# Altium schematic symbol library ModuHub_Library_SCH.SchLib: 19 symbols
Pins are listed as number, name and electrical type; pins without a type are passive.

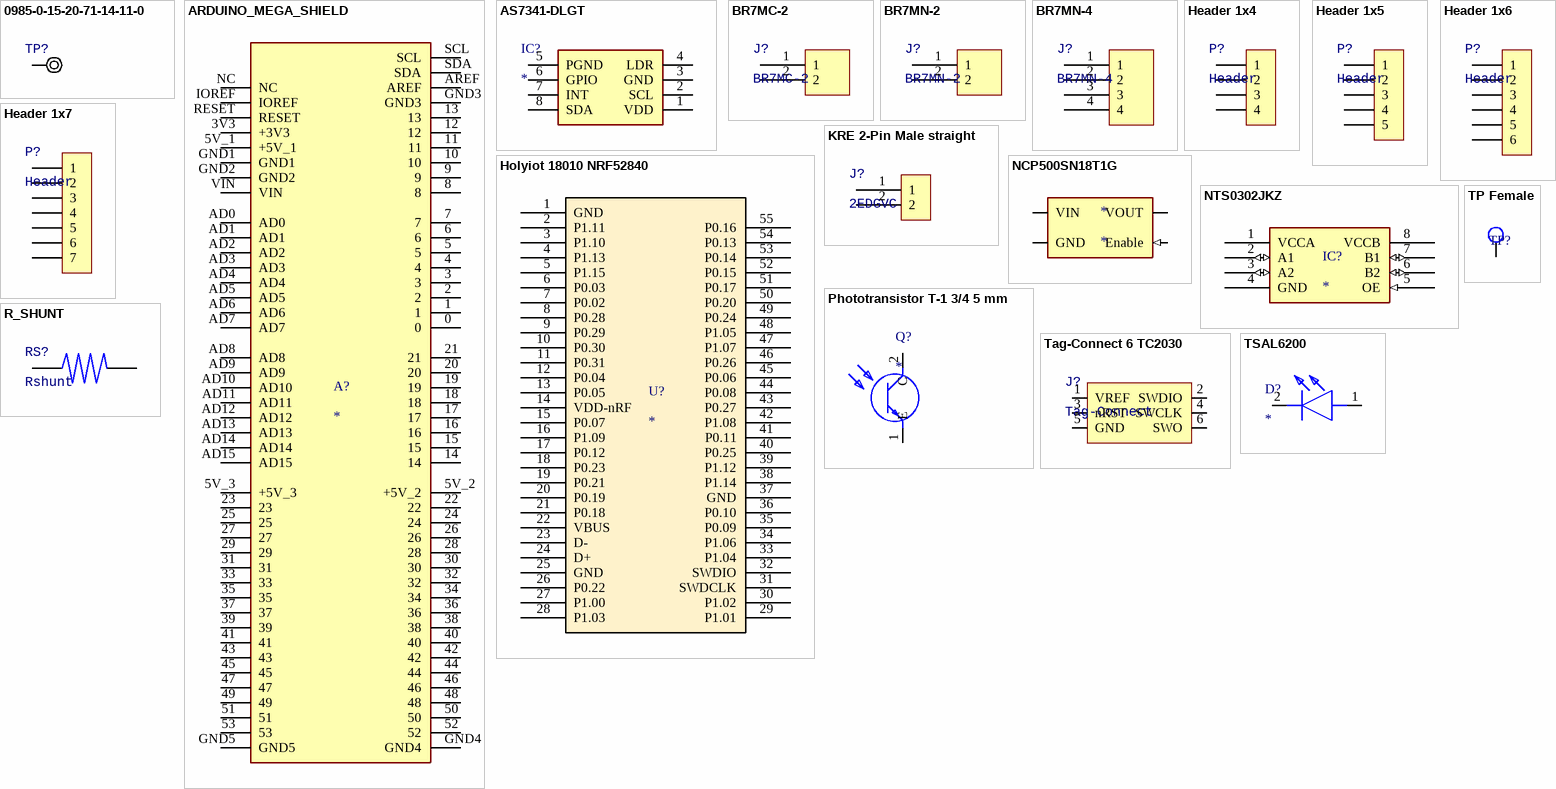
[diagram p0: symbols 0985-0-15-20-71-14-11-0 to TSAL6200]

## 0985-0-15-20-71-14-11-0
designator TP?  (value not drawn)
Pogo Pin; Manufacturer Part Number: 0985-0-15-20-71-14-11-0; MPN: 0985-0-15-20-71-14-11-0
footprint 0985-0-15-20-71-14-11-0 (Pogo Pin)
pins: 1

## ARDUINO_MEGA_SHIELD
designator A?
Arduino Mega 2560 Rev3. ATmega2560 Microcontroller Mega Development Board 16MHz CPU 8KB RAM 4KB/256KB EEPROM/Flash; MP: A000067; MF: Arduino; Package: Non-Standard Arduino; Price: None; Check_prices: https://www.snapeda.com/parts/A000067/Arduino/view-part/?ref=eda; Value: *; SnapEDA_Link: https://www.snapeda.com/parts/A000067/Arduino/view-part/?ref=snap; Availability: In Stock; Purchase-URL: https://pricing.snapeda.com/search?q=A000067&ref=eda
footprint ARDUINO_MEGA_SHIELD
pins: 0, 1, 2, 3, 3V3 +3V3, 4, 5, 5V_1 +5V_1, 5V_2 +5V_2, 5V_3 +5V_3, 6, 7, 8, 9, 10, 11, 12, 13, 14, 15, 16, 17, 18, 19, 20, 21, 22, 23, 24, 25, 26, 27, 28, 29, 30, 31, 32, 33, 34, 35, 36, 37, 38, 39, 40, 41, 42, 43, 44, 45, 46, 47, 48, 49, 50, 51, 52, 53, AD0, AD1, AD2, AD3, AD4, AD5, AD6, AD7, AD8, AD9, AD10, AD11, AD12, AD13, AD14, AD15, AREF, GND1, GND2, GND3, GND4, GND5, IOREF, NC, RESET, SCL, SDA, VIN

## AS7341-DLGT
designator IC?
Integrated Circuit; Manufacturer_Name: ams OSRAM; Manufacturer_Part_Number: AS7341-DLGT; Datasheet Link: https://ams.com/documents/20143/36005/AS7341_DS000504_3-00.pdf/5eca1f59-46e2-6fc5-daf5-d71ad90c9b2b; Height: 1.1mm; Mouser Part Number: 985-AS7341-DLGT; Mouser Price/Stock: https://www.mouser.co.uk/ProductDetail/ams-OSRAM/AS7341-DLGT?qs=byeeYqUIh0Mv1a0BhdN%2FNw%3D%3D; Arrow Part Number: AS7341-DLGT; Arrow Price/Stock: https://www.arrow.com/en/products/as7341-dlgt/ams-osram?region=nac
footprint AS7341DLGT
pins: 1 VDD, 2 SCL, 3 GND, 4 LDR, 5 PGND, 6 GPIO, 7 INT, 8 SDA

## BR7MC-2
designator J?
Manufacturer Part Number: BR7MC2
footprint BR7MC-2
pins: 1, 2

## BR7MN-2
designator J?
footprint BR7MN-2
pins: 1, 2

## BR7MN-4
designator J?
footprint BR7MN-4
pins: 1, 2, 3, 4

## Header 1x4
designator P?, comment Header
Header 1x4 100mils / 2.54mm; Pitch (in): 100mils; Pitch (m): 2.54mm
footprint Header 1x4 (Header 1x4 100mils / 2.54mm)
pins: 1, 2, 3, 4

## Header 1x5
designator P?, comment Header
Header 1x5 100mils / 2.54mm; Pitch (in): 100mils; Pitch (m): 2.54mm
footprint Header 1x5 (Header 1x5 100mils / 2.54mm)
pins: 1, 2, 3, 4, 5

## Header 1x6
designator P?, comment Header
Header 1x6 100mils / 2.54mm; Pitch (in): 100mils; Pitch (m): 2.54mm
footprint Header 1x6 (Header 1x6 100mils / 2.54mm)
pins: 1, 2, 3, 4, 5, 6

## Header 1x7
designator P?, comment Header
Header 1x7 100mils / 2.54mm; Pitch (in): 100mils; Pitch (m): 2.54mm
footprint Header 1x7 (Header 1x7 100mils / 2.54mm)
pins: 1, 2, 3, 4, 5, 6, 7

## Holyiot 18010 NRF52840
designator U?
nRF52840 Integrated Module; Manufacturer Part Number: YJ-18010-nRF52840; Manufacturer: HOLYIOT; Order Link: https://pt.aliexpress.com/item/32868002366.html?gatewayAdapt=glo2bra; Datasheet: http://hyyunjia.com/tp/2019042310294882413.pdf; Supplier: Aliexpress
footprint Holyiot_18010_NRF52840
pins: 1 GND "Ground", 2 P1.11 "Digital I/O Trace data", 3 P1.10 "Digital I/O", 4 P1.13 "Digital I/O", 5 P1.15 "Digital I/O", 6 P0.03 "Digital I/O Analog input", 7 P0.02 "Digital I/O Analog input", 8 P0.28 "Digital I/O Analog input", 9 P0.29 "Digital I/O Analog input", 10 P0.30 "Digital I/O Analog input", 11 P0.31 "Digital I/O Analog input", 12 P0.04 "Digital I/O Analog input", 13 P0.05 "Digital I/O Analog input", 14 VDD-nRF "VDD (3.9v max)", 15 P0.07 "Digital I/O Trace clock", 16 P1.09 "Digital I/O Trace data", 17 P0.12 "Digital I/O Trace data", 18 P0.23 "Digital I/O", 19 P0.21 "Digital I/O", 20 P0.19 "Digital I/O", 21 P0.18 "Digital I/O", 22 VBUS "Power (5.8v max)", 23 D- "Digital I/O", 24 D+ "Digital I/O", 25 GND "Ground", 26 P0.22 "Digital I/O", 27 P1.00 "Digital I/O", 28 P1.03 "Digital I/O", 29 P1.01 "Digital I/O", 30 P1.02 "Digital I/O", 31 SWDCLK "SWD for debug and programming", 32 SWDIO "SWD for debug and programming", 33 P1.04 "Digital I/O", 34 P1.06 "Digital I/O", 35 P0.09 "Digital I/O NFC input", 36 P0.10 "Digital I/O NFC input", 37 GND "Ground", 38 P1.14 "Digital I/O", 39 P1.12 "Digital I/O", 40 P0.25 "Digital I/O", 41 P0.11 "Digital I/O", 42 P1.08 "Digital I/O", 43 P0.27 "Digital I/O", 44 P0.08 "Digital I/O", 45 P0.06 "Digital I/O", 46 P0.26 "Digital I/O", 47 P1.07 "Digital I/O", 48 P1.05 "Digital I/O", 49 P0.24 "Digital I/O", 50 P0.20 "Digital I/O", 51 P0.17 "Digital I/O", 52 P0.15 "Digital I/O", 53 P0.14 "Digital I/O", 54 P0.13 "Digital I/O", 55 P0.16 "Digital I/O"

## KRE 2-Pin Male straight
designator J?, comment 2EDGVC
Manufacturer Part Number: 2EDGVC
footprint KRE 2-Pin Male 2EDGVC
pins: 1, 2

## NCP500SN18T1G
designator *
footprint TSOP-5
pins: 1 VIN (power), 2 GND (power), 3 Enable (in), 4 VOUT (power)

## NTS0302JKZ
designator IC?
footprint X2SON8 (plastic super thin small outline package; no leads; 8  terminals; 1.4 x 1.0 x 0.32 mm body)
pins: 1 VCCA (power), 2 A1 (io), 3 A2 (io), 4 GND (power), 5 OE (in), 6 B2 (io), 7 B1 (io), 8 VCCB (power)

## Phototransistor T-1 3/4 5 mm
designator Q?
Phototransistor T-1 3/4 5 mm; Manufacturer Name: [insert manufacturer]; Manufacturer Part Number: [insert MPN]; Datasheet Link: [insert DS link]; Mouser Part Number: [insert mouser PN]; Mouser Price/Stock: [insert Mouser link]
footprint T-1 3/4 (5 mm) - Black
footprint T-1 3/4 (5 mm) - Clear
pins: 1 E, 2 C

## R_SHUNT
designator RS?, comment Rshunt
footprint R_Shunt
pins: 1, 2

## Tag-Connect 6 TC2030
designator J?, comment Tag-Connect  (no BOM)
footprint TAG-Connect 6 w/out Slots
footprint TAG-Connect 6 with Slots
pins: 1 VREF, 2 SWDIO, 3 nRST, 4 SWCLK, 5 GND, 6 SWO

## TP Female
designator TP?  (value not drawn)  (no BOM)
Test Point Female
footprint Test Point Female (Test point female)
pins: 1

## TSAL6200
designator D?
LED; Manufacturer_Name: Vishay; Manufacturer Part Number: TSAL6200; Datasheet Link: http://www.vishay.com/docs/81010/tsal6200.pdf; Height: 9mm; Mouser Part Number: 782-TSAL6200; Mouser Price/Stock: https://www.mouser.co.uk/ProductDetail/Vishay-Semiconductors/TSAL6200?qs=GAjK1cmKyrlKVEUhArzG2A%3D%3D
footprint T-1 3/4 (5 mm) - Black
footprint T-1 3/4 (5 mm) - Clear
pins: 1 A, 2 K